# EAGLE library part FT2232H_MINI_MODULE (library MODULES)
FT2232H USB 2.0 to I2C, JTAG, SPI, UART Interface Evaluation Board. Ideally needs a pair of connectors such as PPTC132LFBN-RC.
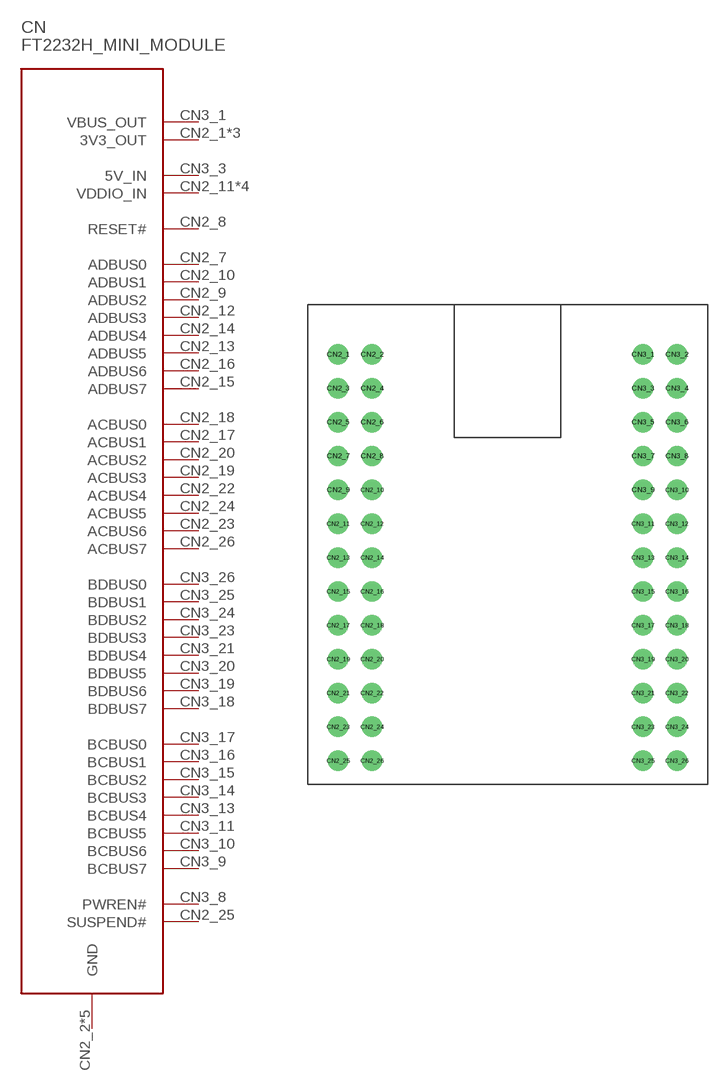
[diagram p8: symbol with the pads of FT2232H_MINI_MODULE; footprint FT2232H_MINI_MODULE]

Designator prefix CN

## FT2232H_MINI_MODULE (DIGIKEY: 768-1030-ND; HEIGHT: 12; PRICE_PER: 24.84; VALUE: FT2232H MINI MODULE)  [FT2232H_MINI_MODULE]
CN2_1  3V3_OUT
CN2_2  GND
CN2_3  3V3_OUT
CN2_4  GND
CN2_5  3V3_OUT
CN2_6  GND
CN2_7  ADBUS0
CN2_8  RESET#
CN2_9  ADBUS2
CN2_10  ADBUS1
CN2_11  VDDIO_IN
CN2_12  ADBUS3
CN2_13  ADBUS5
CN2_14  ADBUS4
CN2_15  ADBUS7
CN2_16  ADBUS6
CN2_17  ACBUS1
CN2_18  ACBUS0
CN2_19  ACBUS3
CN2_20  ACBUS2
CN2_21  VDDIO_IN
CN2_22  ACBUS4
CN2_23  ACBUS6
CN2_24  ACBUS5
CN2_25  SUSPEND#
CN2_26  ACBUS7
CN3_1  VBUS_OUT
CN3_2  GND
CN3_3  5V_IN
CN3_4  GND
CN3_8  PWREN#
CN3_9  BCBUS7
CN3_10  BCBUS6
CN3_11  BCBUS5
CN3_12  VDDIO_IN
CN3_13  BCBUS4
CN3_14  BCBUS3
CN3_15  BCBUS2
CN3_16  BCBUS1
CN3_17  BCBUS0
CN3_18  BDBUS7
CN3_19  BDBUS6
CN3_20  BDBUS5
CN3_21  BDBUS4
CN3_22  VDDIO_IN
CN3_23  BDBUS3
CN3_24  BDBUS2
CN3_25  BDBUS1
CN3_26  BDBUS0

## Footprint FT2232H_MINI_MODULE (pad centres in mm)
drill 1.02: CN2_1 -12.7,15.24; CN2_2 -10.16,15.24; CN2_3 -12.7,12.7; CN2_4 -10.16,12.7; CN2_5 -12.7,10.16; CN2_6 -10.16,10.16; CN2_7 -12.7,7.62; CN2_8 -10.16,7.62; CN2_9 -12.7,5.08; CN2_10 -10.16,5.08; CN2_11 -12.7,2.54; CN2_12 -10.16,2.54; CN2_13 -12.7,0; CN2_14 -10.16,0; CN2_15 -12.7,-2.54; CN2_16 -10.16,-2.54; CN2_17 -12.7,-5.08; CN2_18 -10.16,-5.08; CN2_19 -12.7,-7.62; CN2_20 -10.16,-7.62; CN2_21 -12.7,-10.16; CN2_22 -10.16,-10.16; CN2_23 -12.7,-12.7; CN2_24 -10.16,-12.7; CN2_25 -12.7,-15.24; CN2_26 -10.16,-15.24; CN3_1 10.16,15.24; CN3_2 12.7,15.24; CN3_3 10.16,12.7; CN3_4 12.7,12.7; CN3_5 10.16,10.16; CN3_6 12.7,10.16; CN3_7 10.16,7.62; CN3_8 12.7,7.62; CN3_9 10.16,5.08; CN3_10 12.7,5.08; CN3_11 10.16,2.54; CN3_12 12.7,2.54; CN3_13 10.16,0; CN3_14 12.7,0; CN3_15 10.16,-2.54; CN3_16 12.7,-2.54; CN3_17 10.16,-5.08; CN3_18 12.7,-5.08; CN3_19 10.16,-7.62; CN3_20 12.7,-7.62; CN3_21 10.16,-10.16; CN3_22 12.7,-10.16; CN3_23 10.16,-12.7; CN3_24 12.7,-12.7; CN3_25 10.16,-15.24; CN3_26 12.7,-15.24